# EAGLE library part E-STOP_MODULE (library fcch_eagle_parts_metal_mill)
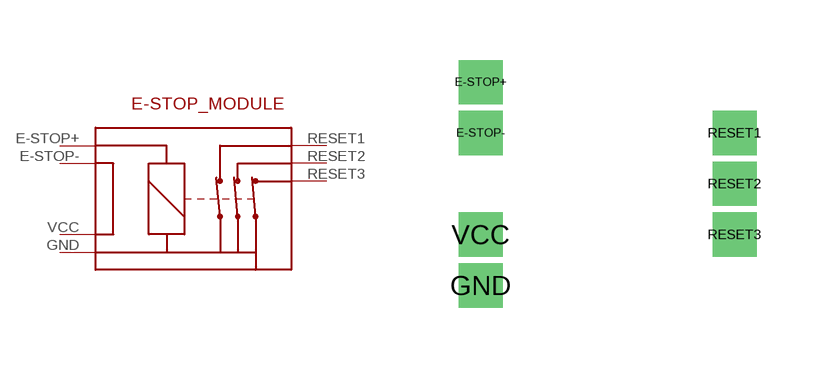
[diagram p5: symbol with the pads of E-STOP_MODULE; footprint E-STOP_MODULE]

Designator prefix -

## E-STOP_MODULE  [E-STOP_MODULE]
E-STOP+  E-STOP+
E-STOP-  E-STOP-
GND  GND
RESET1  ANC
RESET2  BNC
RESET3  CNC
VCC  VCC

## Footprint E-STOP_MODULE (pad centres in mm)
drill 0.6 square: E-STOP+ -2.54,2.54; E-STOP- -2.54,1.27; GND -2.54,-2.54; RESET1 3.81,1.27; RESET2 3.81,0; RESET3 3.81,-1.27; VCC -2.54,-1.27